# Altium footprint library 418117270901.PcbLib: 2 footprints
Each footprint in its own frame and in the unit in brackets; x right, y up, seen from the top. Pads: shape width x height; smd on the part's side, far side on the other; paste and mask are expansions set on the pad; w line width, h text height; cw(c..) or ccw(c..) is an arc to the next point about the centre after c.
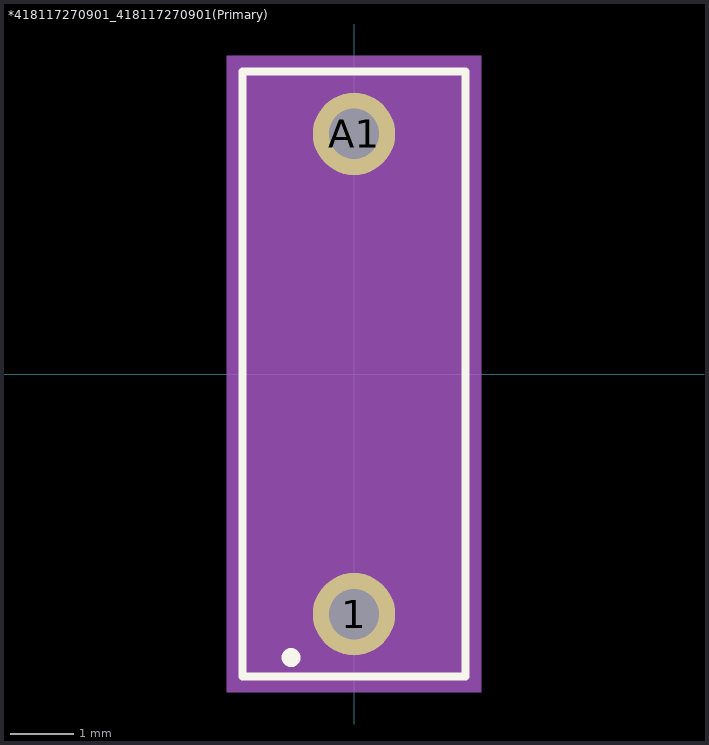
[diagram p0: the footprints below, top view; thin cyan lines are the x and y axes]

## *418117270901_418117270901(Primary) [mm]
pads (2):
  round 1.308 hole 0.8: 1(0,-3.81) A1(0,3.81)
Top Overlay:
  circle w0.2: c-1,-4.5 r0.05
  lines w0.127: -1.77,-4.8 -1.77,4.8 1.77,4.8 1.77,-4.8 -1.77,-4.8
Mechanical 4:
  text "1" at -0.535,-2.795 h1.88
  text "1" at -0.535,-2.795 h1.88
Mechanical 16:
  region: -2.02,5.05 2.02,5.05 2.02,-5.05 -2.02,-5.05

## PCBComponent_1 [mil]